# EAGLE library part PIC32MX250F128B (library lib1)
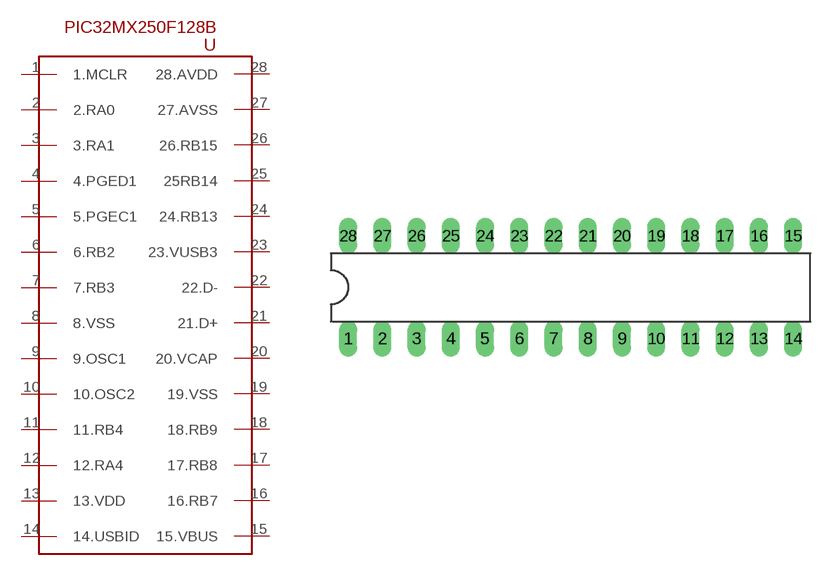
[diagram p0: symbol with the pads of DIL28-3; footprint DIL28-3]

Designator prefix -

## PIC32MX250F128B  [DIL28-3]
1  1.MCLR
2  2.RA0
3  3.RA1
4  4.PGED1
5  5.PGEC1
6  6.RB2
7  7.RB3
8  8.VSS
9  9.OSC1
10  10.OSC2
11  11.RB4
12  12.RA4
13  13.VDD
14  14.USBID
15  15.VBUS
16  16.RB7
17  17.RB8
18  18.RB9
19  19.VSS
20  20.VCAP
21  21.D+
22  22.D-
23  23.VUSB3
24  24.RB13
25  25RB14
26  26.RB15
27  27.AVSS
28  28.AVDD

## Footprint DIL28-3 (pad centres in mm)
Dual In Line package type P
drill 0.813 long: 1 -16.51,-3.81; 2 -13.97,-3.81; 3 -11.43,-3.81; 4 -8.89,-3.81; 5 -6.35,-3.81; 6 -3.81,-3.81; 7 -1.27,-3.81; 8 1.27,-3.81; 9 3.81,-3.81; 10 6.35,-3.81; 11 8.89,-3.81; 12 11.43,-3.81; 13 13.97,-3.81; 14 16.51,-3.81; 15 16.51,3.81; 16 13.97,3.81; 17 11.43,3.81; 18 8.89,3.81; 19 6.35,3.81; 20 3.81,3.81; 21 1.27,3.81; 22 -1.27,3.81; 23 -3.81,3.81; 24 -6.35,3.81; 25 -8.89,3.81; 26 -11.43,3.81; 27 -13.97,3.81; 28 -16.51,3.81